# Altium integrated library TDA7294.IntLib: 1 symbol
Pins are listed as number, name and electrical type; pins without a type are passive.

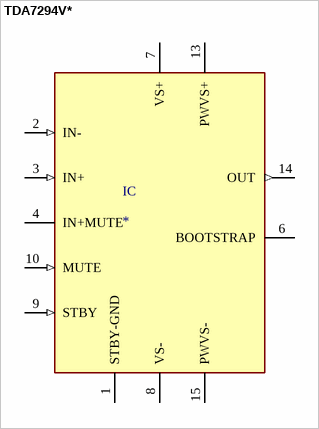
[diagram p0: symbol TDA7294V*]

## TDA7294V*
designator IC
Amplifier IC 1-Channel _Mono_ Class AB 15-Multiwatt; MP: TDA7294V; MF: STMicroelectronics; Package: Multiwatt-15 STMicroelectronics; Availability: Unavailable; Value: *; Price: None; SnapEDA_Link: https://www.snapeda.com/parts/TDA7294V/STMicroelectronics/view-part/13937/?ref=snap
footprint MULTIWATT15H
pins: 1 STBY-GND (power), 2 IN- (in), 3 IN+ (in), 4 IN+MUTE (power), 6 BOOTSTRAP, 7 VS+ (power), 8 VS- (power), 9 STBY (in), 10 MUTE (in), 13 PWVS+ (power), 14 OUT (out), 15 PWVS- (power)